# EAGLE library part ADUM6000ARIZ (library IntegratedLib)
Conversor DC-DC isolado 5kV (SOIC-16)
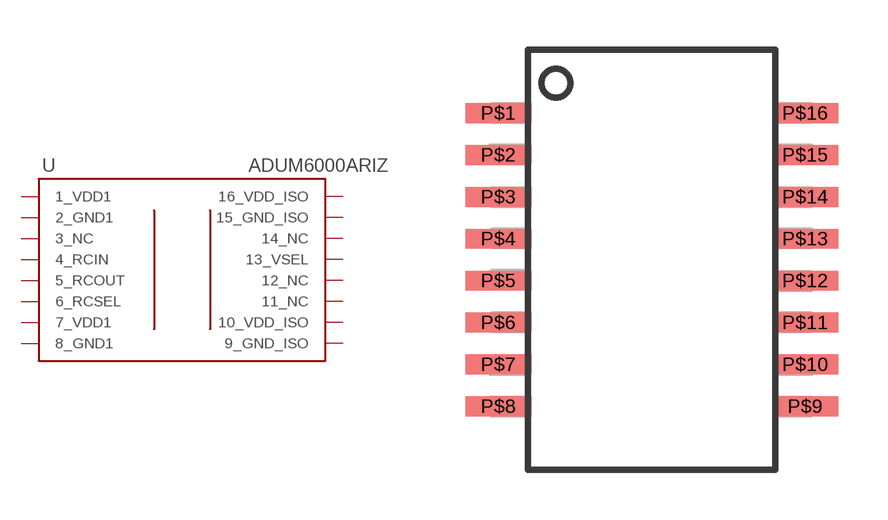
[diagram p47: symbol with the pads of SOIC-16(V2); footprint SOIC-16(V2)]

Designator prefix U

## ADUM6000ARIZ (FABRICANTE: ANALOG DEVICES; PARTNUMBER: ADUM6000ARIZ; TIPO: CIRCUITO INTEGRADO)  [SOIC-16(V2)]
P$1  1_VDD1  pwr
P$2  2_GND1  pwr
P$3  3_NC  in
P$4  4_RCIN  in
P$5  5_RCOUT  in
P$6  6_RCSEL  out
P$7  7_VDD1
P$8  8_GND1  pwr
P$9  9_GND_ISO  pwr
P$10  10_VDD_ISO
P$11  11_NC  in
P$12  12_NC  out
P$13  13_VSEL  out
P$14  14_NC  out
P$15  15_GND_ISO  pwr
P$16  16_VDD_ISO  pwr

## Footprint SOIC-16(V2) (pad centres in mm)
smd 2 x 0.6: P$1 -4.65,4.445; P$2 -4.65,3.175; P$3 -4.65,1.905; P$4 -4.65,0.635; P$5 -4.65,-0.635; P$6 -4.65,-1.905; P$7 -4.65,-3.175; P$8 -4.65,-4.445; P$9 4.65,-4.445; P$10 4.65,-3.175; P$11 4.65,-1.905; P$12 4.65,-0.635; P$13 4.65,0.635; P$14 4.65,1.905; P$15 4.65,3.175; P$16 4.65,4.445